# Altium footprint library aiskylab-06IC-03Interface.PcbLib: 31 footprints (part 1 of 2)
Each footprint in its own frame and in the unit in brackets; x right, y up, seen from the top. Pads: shape width x height; smd on the part's side, far side on the other; paste and mask are expansions set on the pad; w line width, h text height; cw(c..) or ccw(c..) is an arc to the next point about the centre after c.
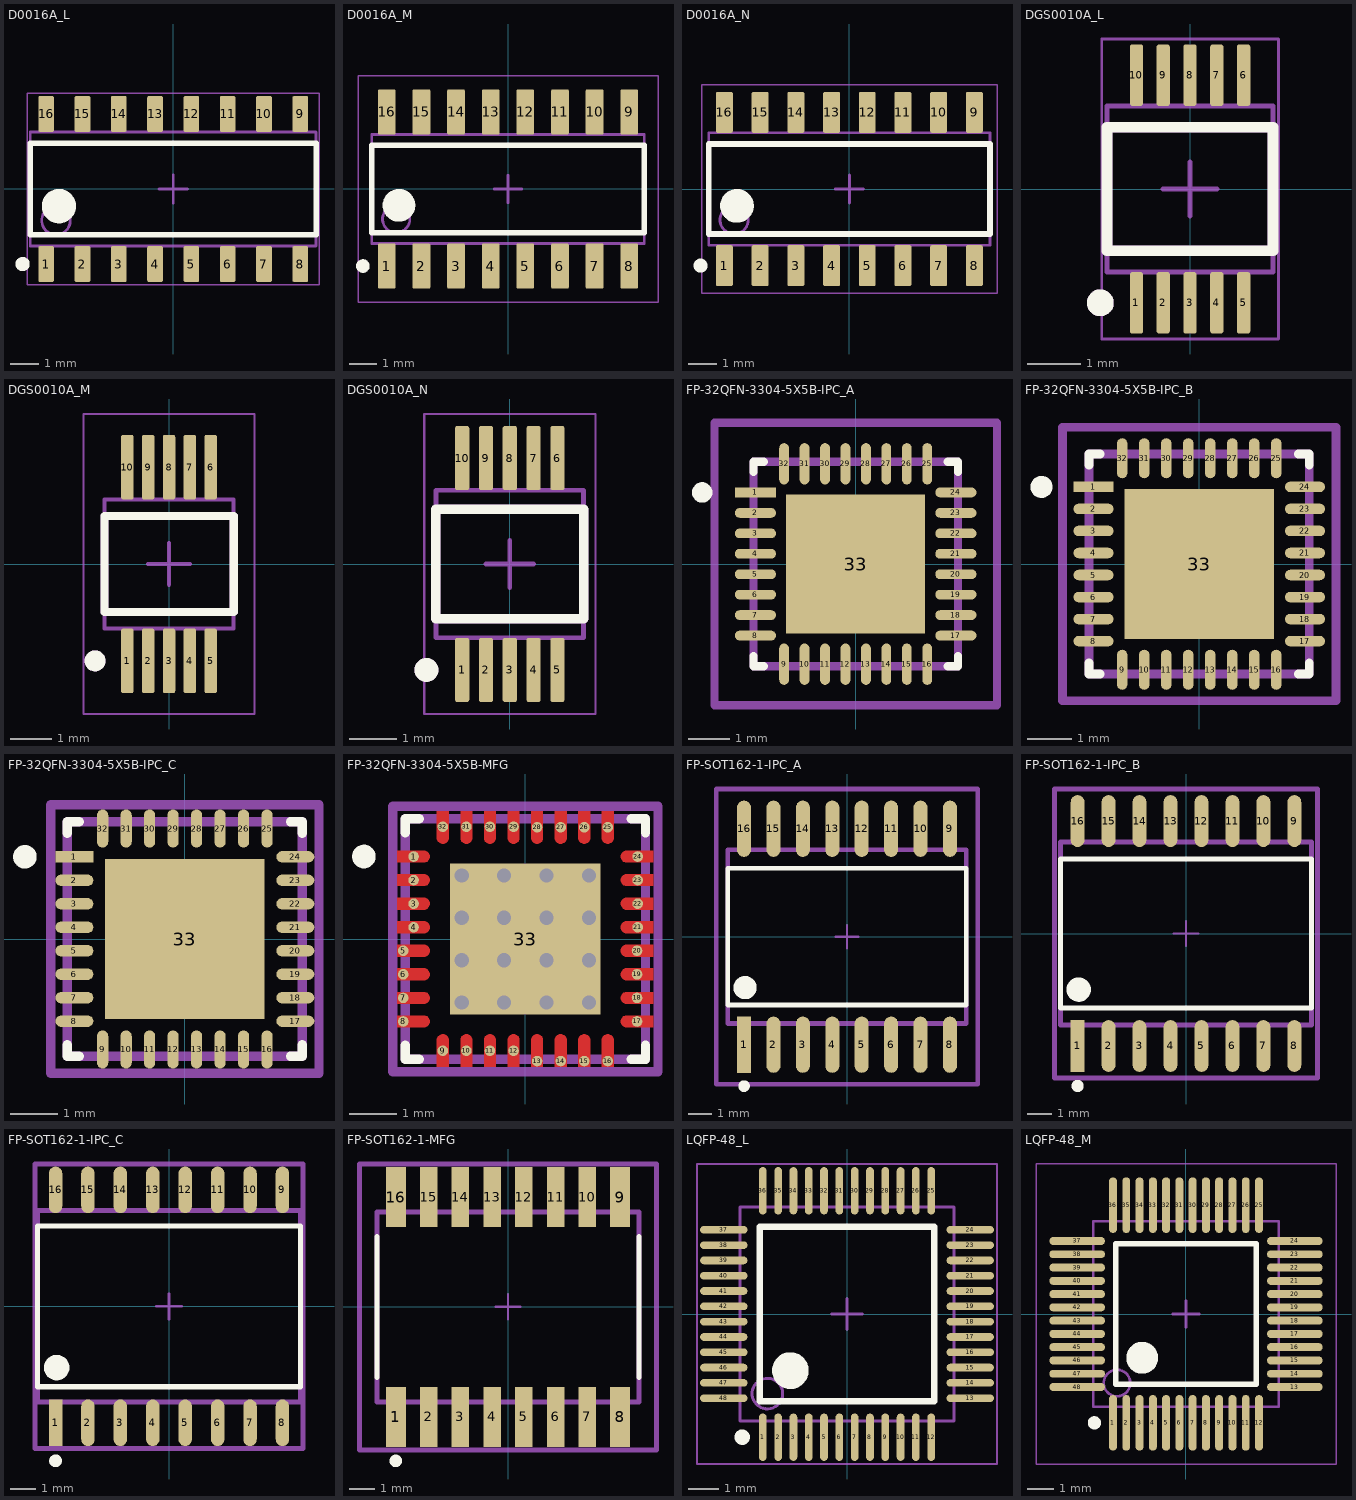
[diagram p0: the footprints below, top view; thin cyan lines are the x and y axes]

## D0016A_L [mm] "SOIC, 16-Leads, Body 10x4mm, Pitch 1.27mm, IPC High Density"
height 1.75
pads (16):
  rrect18% 0.55x1.25 smd: 1(-4.445,-2.625) 2(-3.175,-2.625) 3(-1.905,-2.625) 4(-0.635,-2.625) 5(0.635,-2.625) 6(1.905,-2.625) 7(3.175,-2.625) 8(4.445,-2.625) 9(4.445,2.625) 10(3.175,2.625) 11(1.905,2.625) 12(0.635,2.625) 13(-0.635,2.625) 14(-1.905,2.625) 15(-3.175,2.625) 16(-4.445,2.625)
Top Overlay:
  circle w0.6: c-4,-0.6 r0.3
  circle w0.25: c-5.27,-2.625 r0.125
  lines w0.2: -5,-1.6 -5,1.6 5,1.6 5,-1.6 -5,-1.6
Top Designator:
  text ".Designator" at -7.815,-0.508 h1.52
Top Assembly:
  circle w0.1: c-4.1,-1.1 r0.5
  lines w0.1: -5,-2 5,-2 5,2 -5,2 -5,-2
Top Component Center:
  lines w0.1: -0.5,0 0.5,0 ; 0,-0.5 0,0.5
Top Component Outline:
  lines w0.05: -5.1,-3.35 5.1,-3.35 5.1,3.35 -5.1,3.35 -5.1,-3.35
3D body "SOIC-16akaD0016AakaM16A.stp": height 1.59, standoff -0.01, extent -4.953,-2.997 4.953,2.997

## D0016A_M [mm] "SOIC, 16-Leads, Body 10x4mm, Pitch 1.27mm, IPC Low Density"
height 1.75
pads (16):
  rrect15% 0.65x1.65 smd: 1(-4.445,-2.825) 2(-3.175,-2.825) 3(-1.905,-2.825) 4(-0.635,-2.825) 5(0.635,-2.825) 6(1.905,-2.825) 7(3.175,-2.825) 8(4.445,-2.825) 9(4.445,2.825) 10(3.175,2.825) 11(1.905,2.825) 12(0.635,2.825) 13(-0.635,2.825) 14(-1.905,2.825) 15(-3.175,2.825) 16(-4.445,2.825)
Top Overlay:
  circle w0.25: c-5.32,-2.825 r0.125
  circle w0.6: c-4,-0.6 r0.3
  lines w0.2: -5,-1.6 5,-1.6 5,1.6 -5,1.6 -5,-1.6
Top Designator:
  text ".Designator" at -7.64,-0.508 h1.52
Top Assembly:
  circle w0.1: c-4.1,-1.1 r0.5
  lines w0.1: -5,-2 5,-2 5,2 -5,2 -5,-2
Top Component Center:
  lines w0.1: -0.5,0 0.5,0 ; 0,-0.5 0,0.5
Top Component Outline:
  lines w0.05: -5.5,-4.15 5.5,-4.15 5.5,4.15 -5.5,4.15 -5.5,-4.15
3D body "SOIC-16akaD0016AakaM16A.stp": height 1.59, standoff -0.01, extent -4.953,-2.997 4.953,2.997

## D0016A_N [mm] "SOIC, 16-Leads, Body 10x4mm, Pitch 1.27mm, IPC Medium Density"
height 1.75
pads (16):
  rrect17% 0.6x1.45 smd: 1(-4.445,-2.725) 2(-3.175,-2.725) 3(-1.905,-2.725) 4(-0.635,-2.725) 5(0.635,-2.725) 6(1.905,-2.725) 7(3.175,-2.725) 8(4.445,-2.725) 9(4.445,2.725) 10(3.175,2.725) 11(1.905,2.725) 12(0.635,2.725) 13(-0.635,2.725) 14(-1.905,2.725) 15(-3.175,2.725) 16(-4.445,2.725)
Top Overlay:
  circle w0.25: c-5.295,-2.725 r0.125
  circle w0.6: c-4,-0.6 r0.3
  lines w0.2: -5,-1.6 5,-1.6 5,1.6 -5,1.6 -5,-1.6
Top Designator:
  text ".Designator" at -7.753,-0.508 h1.52
Top Assembly:
  circle w0.1: c-4.1,-1.1 r0.5
  lines w0.1: -5,-2 -5,2 5,2 5,-2 -5,-2
Top Component Center:
  lines w0.1: -0.5,0 0.5,0 ; 0,-0.5 0,0.5
Top Component Outline:
  lines w0.05: -5.25,-3.7 -5.25,3.7 5.25,3.7 5.25,-3.7 -5.25,-3.7
3D body "SOIC-16akaD0016AakaM16A.stp": height 1.59, standoff -0.01, extent -4.953,-2.997 4.953,2.997

## DGS0010A_L [mm] "SOP, 10-Leads, Body 3.1x3.1mm, Pitch 0.5mm, IPC High Density"
height 1.1
pads (10):
  rrect40% 0.25x1.15 smd: 1(-1,-2.125) 2(-0.5,-2.125) 3(0,-2.125) 4(0.5,-2.125) 5(1,-2.125) 6(1,2.125) 7(0.5,2.125) 8(0,2.125) 9(-0.5,2.125) 10(-1,2.125)
Top Overlay:
  circle w0.25: c-1.675,-2.125 r0.125
  lines w0.2: -1.55,-1.15 1.55,-1.15 1.55,1.15 -1.55,1.15 -1.55,-1.15
Top Designator:
  text ".Designator" at -7.743,-0.508 h1.52
Top Assembly:
  circle w0.25: c-1.675,-2.125 r0.125
  lines w0.2: -1.55,-1.15 1.55,-1.15 1.55,1.15 -1.55,1.15 -1.55,-1.15
Top Component Center:
  lines w0.1: -0.5,0 0.5,0 ; 0,-0.5 0,0.5
Top Component Outline:
  lines w0.05: -1.65,-2.8 -1.65,2.8 1.65,2.8 1.65,-2.8 -1.65,-2.8
Top 3D Body:
  lines w0.1: -1.55,-1.55 -1.55,1.55 1.55,1.55 1.55,-1.55 -1.55,-1.55
3D body "DGS0010AakaMUB10A.stp": height 0.94, standoff -0.02, extent -1.499,-2.451 1.499,2.451

## DGS0010A_M [mm] "SOP, 10-Leads, Body 3.1x3.1mm, Pitch 0.5mm, IPC Low Density"
height 1.1
pads (10):
  rrect33% 0.3x1.55 smd: 1(-1,-2.325) 2(-0.5,-2.325) 3(0,-2.325) 4(0.5,-2.325) 5(1,-2.325) 6(1,2.325) 7(0.5,2.325) 8(0,2.325) 9(-0.5,2.325) 10(-1,2.325)
Top Overlay:
  circle w0.25: c-1.775,-2.325 r0.125
  lines w0.2: -1.55,-1.15 1.55,-1.15 1.55,1.15 -1.55,1.15 -1.55,-1.15
Top Designator:
  text ".Designator" at -7.618,-0.508 h1.52
Top Assembly:
  circle w0.25: c-1.775,-2.325 r0.125
  lines w0.2: -1.55,-1.15 1.55,-1.15 1.55,1.15 -1.55,1.15 -1.55,-1.15
Top Component Center:
  lines w0.1: -0.5,0 0.5,0 ; 0,-0.5 0,0.5
Top Component Outline:
  lines w0.05: -2.05,-3.6 -2.05,3.6 2.05,3.6 2.05,-3.6 -2.05,-3.6
Top 3D Body:
  lines w0.1: -1.55,-1.55 -1.55,1.55 1.55,1.55 1.55,-1.55 -1.55,-1.55
3D body "DGS0010AakaMUB10A.stp": height 0.94, standoff -0.02, extent -1.499,-2.451 1.499,2.451

## DGS0010A_N [mm] "SOP, 10-Leads, Body 3.1x3.1mm, Pitch 0.5mm, IPC Medium Density"
height 1.1
pads (10):
  rrect33% 0.3x1.35 smd: 1(-1,-2.225) 2(-0.5,-2.225) 3(0,-2.225) 4(0.5,-2.225) 5(1,-2.225) 6(1,2.225) 7(0.5,2.225) 8(0,2.225) 9(-0.5,2.225) 10(-1,2.225)
Top Overlay:
  circle w0.25: c-1.75,-2.225 r0.125
  lines w0.2: -1.55,-1.15 1.55,-1.15 1.55,1.15 -1.55,1.15 -1.55,-1.15
Top Designator:
  text ".Designator" at -7.705,-0.508 h1.52
Top Assembly:
  circle w0.25: c-1.75,-2.225 r0.125
  lines w0.2: -1.55,-1.15 -1.55,1.15 1.55,1.15 1.55,-1.15 -1.55,-1.15
Top Component Center:
  lines w0.1: -0.5,0 0.5,0 ; 0,-0.5 0,0.5
Top Component Outline:
  lines w0.05: -1.8,-3.15 1.8,-3.15 1.8,3.15 -1.8,3.15 -1.8,-3.15
Top 3D Body:
  lines w0.1: -1.55,-1.55 1.55,-1.55 1.55,1.55 -1.55,1.55 -1.55,-1.55
3D body "DGS0010AakaMUB10A.stp": height 0.94, standoff -0.02, extent -1.499,-2.451 1.499,2.451

## FP-32QFN-3304-5X5B-IPC_A [mm]
pads (33):
  rect 1.01x0.239 smd paste+0 mask+0: 1(-2.451,1.75)
  rrect100% 1.01x0.239 smd paste+0 mask+0: 2(-2.451,1.25) 3(-2.451,0.75) 4(-2.451,0.25) 5(-2.451,-0.25) 6(-2.451,-0.75) 7(-2.451,-1.25) 8(-2.451,-1.75) 17(2.451,-1.75) 18(2.451,-1.25) 19(2.451,-0.75) 20(2.451,-0.25) 21(2.451,0.25) 22(2.451,0.75) 23(2.451,1.25) 24(2.451,1.75)
  rrect100% 0.239x1.01 smd paste+0 mask+0: 9(-1.75,-2.451) 10(-1.25,-2.451) 11(-0.75,-2.451) 12(-0.25,-2.451) 13(0.25,-2.451) 14(0.75,-2.451) 15(1.25,-2.451) 16(1.75,-2.451) 25(1.75,2.451) 26(1.25,2.451) 27(0.75,2.451) 28(0.25,2.451) 29(-0.25,2.451) 30(-0.75,2.451) 31(-1.25,2.451) 32(-1.75,2.451)
  rect 3.4x3.4 smd paste-1000 mask+0: 33(0,0)
Top Overlay:
  circle w0.25: c-3.756,1.75 r0.125
  lines w0.2: -2.5,-2.25 -2.5,-2.5 -2.25,-2.5 ; -2.5,2.25 -2.5,2.5 -2.25,2.5 ; 2.25,-2.5 2.5,-2.5 2.5,-2.25 ; 2.25,2.5 2.5,2.5 2.5,2.25
Top Paste:
  rectangle: -1.075,-1.075 1.075,1.075
Top Designator:
  text ".Designator" at -7.843,-0.508 h1.52
Top Assembly:
  lines w0.2: -2.5,-2.5 -2.5,2.5 2.5,2.5 2.5,-2.5 -2.5,-2.5
Top Component Center:
  lines w0.1: -0.5,0 0.5,0 ; 0,-0.5 0,0.5
Top Component Outline:
  lines w0.2: -3.456,-3.456 3.456,-3.456 3.456,3.456 -3.456,3.456 -3.456,-3.456
Bottom 3D Body:
  lines w0.2: -3.456,-3.456 3.456,-3.456 3.456,3.456 -3.456,3.456 -3.456,-3.456
3D body "IC_Microchip_USB3320C-EZK-TR_eec.STEP": height 1, standoff 0, extent -2.5,-2.5 2.5,2.5

## FP-32QFN-3304-5X5B-IPC_B [mm]
pads (33):
  rect 0.91x0.239 smd paste+0 mask+0: 1(-2.401,1.75)
  rrect100% 0.91x0.239 smd paste+0 mask+0: 2(-2.401,1.25) 3(-2.401,0.75) 4(-2.401,0.25) 5(-2.401,-0.25) 6(-2.401,-0.75) 7(-2.401,-1.25) 8(-2.401,-1.75) 17(2.401,-1.75) 18(2.401,-1.25) 19(2.401,-0.75) 20(2.401,-0.25) 21(2.401,0.25) 22(2.401,0.75) 23(2.401,1.25) 24(2.401,1.75)
  rrect100% 0.239x0.91 smd paste+0 mask+0: 9(-1.75,-2.401) 10(-1.25,-2.401) 11(-0.75,-2.401) 12(-0.25,-2.401) 13(0.25,-2.401) 14(0.75,-2.401) 15(1.25,-2.401) 16(1.75,-2.401) 25(1.75,2.401) 26(1.25,2.401) 27(0.75,2.401) 28(0.25,2.401) 29(-0.25,2.401) 30(-0.75,2.401) 31(-1.25,2.401) 32(-1.75,2.401)
  rect 3.4x3.4 smd paste-1000 mask+0: 33(0,0)
Top Overlay:
  circle w0.25: c-3.581,1.75 r0.125
  lines w0.2: -2.5,-2.25 -2.5,-2.5 -2.25,-2.5 ; -2.5,2.25 -2.5,2.5 -2.25,2.5 ; 2.25,-2.5 2.5,-2.5 2.5,-2.25 ; 2.25,2.5 2.5,2.5 2.5,2.25
Top Paste:
  rectangle: -1.075,-1.075 1.075,1.075
Top Designator:
  text ".Designator" at -7.93,-0.508 h1.52
Top Assembly:
  lines w0.2: -3.106,-3.106 3.106,-3.106 3.106,3.106 -3.106,3.106 -3.106,-3.106
Top Component Center:
  lines w0.1: -0.5,0 0.5,0 ; 0,-0.5 0,0.5
Top Component Outline:
  lines w0.2: -3.106,-3.106 -3.106,3.106 3.106,3.106 3.106,-3.106 -3.106,-3.106
Top 3D Body:
  lines w0.2: -2.5,-2.5 -2.5,2.5 2.5,2.5 2.5,-2.5 -2.5,-2.5
3D body "IC_Microchip_USB3320C-EZK-TR_eec.STEP": height 1, standoff 0, extent -2.5,-2.5 2.5,2.5

## FP-32QFN-3304-5X5B-IPC_C [mm]
pads (33):
  rect 0.81x0.239 smd paste+0 mask+0: 1(-2.351,1.75)
  rrect100% 0.81x0.239 smd paste+0 mask+0: 2(-2.351,1.25) 3(-2.351,0.75) 4(-2.351,0.25) 5(-2.351,-0.25) 6(-2.351,-0.75) 7(-2.351,-1.25) 8(-2.351,-1.75) 17(2.351,-1.75) 18(2.351,-1.25) 19(2.351,-0.75) 20(2.351,-0.25) 21(2.351,0.25) 22(2.351,0.75) 23(2.351,1.25) 24(2.351,1.75)
  rrect100% 0.239x0.81 smd paste+0 mask+0: 9(-1.75,-2.351) 10(-1.25,-2.351) 11(-0.75,-2.351) 12(-0.25,-2.351) 13(0.25,-2.351) 14(0.75,-2.351) 15(1.25,-2.351) 16(1.75,-2.351) 25(1.75,2.351) 26(1.25,2.351) 27(0.75,2.351) 28(0.25,2.351) 29(-0.25,2.351) 30(-0.75,2.351) 31(-1.25,2.351) 32(-1.75,2.351)
  rect 3.4x3.4 smd paste-1000 mask+0: 33(0,0)
Top Overlay:
  circle w0.25: c-3.406,1.75 r0.125
  lines w0.2: -2.5,-2.25 -2.5,-2.5 -2.25,-2.5 ; -2.5,2.25 -2.5,2.5 -2.25,2.5 ; 2.25,-2.5 2.5,-2.5 2.5,-2.25 ; 2.25,2.5 2.5,2.5 2.5,2.25
Top Paste:
  rectangle: -1.075,-1.075 1.075,1.075
Top Designator:
  text ".Designator" at -7.968,-0.508 h1.52
Top Assembly:
  lines w0.2: -2.856,-2.856 2.856,-2.856 2.856,2.856 -2.856,2.856 -2.856,-2.856
Top Component Center:
  lines w0.1: -0.5,0 0.5,0 ; 0,-0.5 0,0.5
Top Component Outline:
  lines w0.2: -2.856,-2.856 2.856,-2.856 2.856,2.856 -2.856,2.856 -2.856,-2.856
Top 3D Body:
  lines w0.2: -2.5,-2.5 2.5,-2.5 2.5,2.5 -2.5,2.5 -2.5,-2.5
3D body "IC_Microchip_USB3320C-EZK-TR_eec.STEP": height 1, standoff 0, extent -2.5,-2.5 2.5,2.5

## FP-32QFN-3304-5X5B-MFG [mm]
pads (33):
  round 0.225 smd paste-1000 mask+0: 1(-2.37,1.75) 2(-2.37,1.25) 3(-2.37,0.75) 4(-2.37,0.25) 5(-2.59,-0.25) 6(-2.59,-0.75) 7(-2.59,-1.25) 8(-2.59,-1.75) 9(-1.75,-2.37) 10(-1.25,-2.37) 11(-0.75,-2.37) 12(-0.25,-2.37) 13(0.25,-2.59) 14(0.75,-2.59) 15(1.25,-2.59) 16(1.75,-2.59) 17(2.37,-1.75) 18(2.37,-1.25) 19(2.37,-0.75) 20(2.37,-0.25) 21(2.383,0.25) 22(2.383,0.75) 23(2.383,1.25) 24(2.383,1.75) 25(1.75,2.37) 26(1.25,2.37) 27(0.75,2.37) 28(0.25,2.37) 29(-0.25,2.383) 30(-0.75,2.383) 31(-1.25,2.383) 32(-1.75,2.383)
  rect 3.2x3.2 smd paste-1000 mask+0: 33(0,0)
via 1.35,-1.35 diameter 0.5 hole 0.3
via 0.45,-1.35 diameter 0.5 hole 0.3
via -0.45,-1.35 diameter 0.5 hole 0.3
via -1.35,-1.35 diameter 0.5 hole 0.3
via 1.35,-0.45 diameter 0.5 hole 0.3
via 0.45,-0.45 diameter 0.5 hole 0.3
via -0.45,-0.45 diameter 0.5 hole 0.3
via -1.35,-0.45 diameter 0.5 hole 0.3
via 1.35,0.45 diameter 0.5 hole 0.3
via 0.45,0.45 diameter 0.5 hole 0.3
via -0.45,0.45 diameter 0.5 hole 0.3
via -1.35,0.45 diameter 0.5 hole 0.3
via 1.35,1.35 diameter 0.5 hole 0.3
via 0.45,1.35 diameter 0.5 hole 0.3
via -0.45,1.35 diameter 0.5 hole 0.3
via -1.35,1.35 diameter 0.5 hole 0.3
Top Layer:
  region: -1.625,2.715 -1.625,2.15 -1.625,2.125 -1.644,2.079 -1.679,2.044 -1.725,2.025 -1.75,2.025 -1.775,2.025 -1.821,2.044 -1.856,2.079 -1.875,2.125 -1.875,2.15 -1.875,2.715
  region: -1.125,2.715 -1.125,2.15 -1.125,2.125 -1.144,2.079 -1.179,2.044 -1.225,2.025 -1.25,2.025 -1.275,2.025 -1.321,2.044 -1.356,2.079 -1.375,2.125 -1.375,2.15 -1.375,2.715
  region: -0.625,2.715 -0.625,2.15 -0.625,2.125 -0.644,2.079 -0.679,2.044 -0.725,2.025 -0.75,2.025 -0.775,2.025 -0.821,2.044 -0.856,2.079 -0.875,2.125 -0.875,2.15 -0.875,2.715
  region: -0.125,2.715 -0.125,2.15 -0.125,2.125 -0.144,2.079 -0.179,2.044 -0.225,2.025 -0.25,2.025 -0.275,2.025 -0.321,2.044 -0.356,2.079 -0.375,2.125 -0.375,2.15 -0.375,2.715
  region: 0.375,2.715 0.375,2.15 0.375,2.125 0.356,2.079 0.321,2.044 0.275,2.025 0.25,2.025 0.225,2.025 0.179,2.044 0.144,2.079 0.125,2.125 0.125,2.15 0.125,2.715
  region: 0.875,2.715 0.875,2.15 0.875,2.125 0.856,2.079 0.821,2.044 0.775,2.025 0.75,2.025 0.725,2.025 0.679,2.044 0.644,2.079 0.625,2.125 0.625,2.15 0.625,2.715
  region: 1.375,2.715 1.375,2.15 1.375,2.125 1.356,2.079 1.321,2.044 1.275,2.025 1.25,2.025 1.225,2.025 1.179,2.044 1.144,2.079 1.125,2.125 1.125,2.15 1.125,2.715
  region: 1.875,2.715 1.875,2.15 1.875,2.125 1.856,2.079 1.821,2.044 1.775,2.025 1.75,2.025 1.725,2.025 1.679,2.044 1.644,2.079 1.625,2.125 1.625,2.15 1.625,2.715
  region: 1.625,-2.715 1.625,-2.15 1.625,-2.125 1.644,-2.079 1.679,-2.044 1.725,-2.025 1.75,-2.025 1.775,-2.025 1.821,-2.044 1.856,-2.079 1.875,-2.125 1.875,-2.15 1.875,-2.715
  region: 1.125,-2.715 1.125,-2.15 1.125,-2.125 1.144,-2.079 1.179,-2.044 1.225,-2.025 1.25,-2.025 1.275,-2.025 1.321,-2.044 1.356,-2.079 1.375,-2.125 1.375,-2.15 1.375,-2.715
  region: 0.625,-2.715 0.625,-2.15 0.625,-2.125 0.644,-2.079 0.679,-2.044 0.725,-2.025 0.75,-2.025 0.775,-2.025 0.821,-2.044 0.856,-2.079 0.875,-2.125 0.875,-2.15 0.875,-2.715
  region: 0.125,-2.715 0.125,-2.15 0.125,-2.125 0.144,-2.079 0.179,-2.044 0.225,-2.025 0.25,-2.025 0.275,-2.025 0.321,-2.044 0.356,-2.079 0.375,-2.125 0.375,-2.15 0.375,-2.715
  region: -0.375,-2.715 -0.375,-2.15 -0.375,-2.125 -0.356,-2.079 -0.321,-2.044 -0.275,-2.025 -0.25,-2.025 -0.225,-2.025 -0.179,-2.044 -0.144,-2.079 -0.125,-2.125 -0.125,-2.15 -0.125,-2.715
  region: -0.875,-2.715 -0.875,-2.15 -0.875,-2.125 -0.856,-2.079 -0.821,-2.044 -0.775,-2.025 -0.75,-2.025 -0.725,-2.025 -0.679,-2.044 -0.644,-2.079 -0.625,-2.125 -0.625,-2.15 -0.625,-2.715
  region: -1.375,-2.715 -1.375,-2.15 -1.375,-2.125 -1.356,-2.079 -1.321,-2.044 -1.275,-2.025 -1.25,-2.025 -1.225,-2.025 -1.179,-2.044 -1.144,-2.079 -1.125,-2.125 -1.125,-2.15 -1.125,-2.715
  region: -1.875,-2.715 -1.875,-2.15 -1.875,-2.125 -1.856,-2.079 -1.821,-2.044 -1.775,-2.025 -1.75,-2.025 -1.725,-2.025 -1.679,-2.044 -1.644,-2.079 -1.625,-2.125 -1.625,-2.15 -1.625,-2.715
  region: 2.715,1.625 2.15,1.625 2.125,1.625 2.079,1.644 2.044,1.679 2.025,1.725 2.025,1.75 2.025,1.775 2.044,1.821 2.079,1.856 2.125,1.875 2.15,1.875 2.715,1.875
  region: 2.715,1.125 2.15,1.125 2.125,1.125 2.079,1.144 2.044,1.179 2.025,1.225 2.025,1.25 2.025,1.275 2.044,1.321 2.079,1.356 2.125,1.375 2.15,1.375 2.715,1.375
  region: 2.715,0.625 2.15,0.625 2.125,0.625 2.079,0.644 2.044,0.679 2.025,0.725 2.025,0.75 2.025,0.775 2.044,0.821 2.079,0.856 2.125,0.875 2.15,0.875 2.715,0.875
  region: 2.715,0.125 2.15,0.125 2.125,0.125 2.079,0.144 2.044,0.179 2.025,0.225 2.025,0.25 2.025,0.275 2.044,0.321 2.079,0.356 2.125,0.375 2.15,0.375 2.715,0.375
  region: 2.715,-0.375 2.15,-0.375 2.125,-0.375 2.079,-0.356 2.044,-0.321 2.025,-0.275 2.025,-0.25 2.025,-0.225 2.044,-0.179 2.079,-0.144 2.125,-0.125 2.15,-0.125 2.715,-0.125
  region: 2.715,-0.875 2.15,-0.875 2.125,-0.875 2.079,-0.856 2.044,-0.821 2.025,-0.775 2.025,-0.75 2.025,-0.725 2.044,-0.679 2.079,-0.644 2.125,-0.625 2.15,-0.625 2.715,-0.625
  region: 2.715,-1.375 2.15,-1.375 2.125,-1.375 2.079,-1.356 2.044,-1.321 2.025,-1.275 2.025,-1.25 2.025,-1.225 2.044,-1.179 2.079,-1.144 2.125,-1.125 2.15,-1.125 2.715,-1.125
  region: 2.715,-1.875 2.15,-1.875 2.125,-1.875 2.079,-1.856 2.044,-1.821 2.025,-1.775 2.025,-1.75 2.025,-1.725 2.044,-1.679 2.079,-1.644 2.125,-1.625 2.15,-1.625 2.715,-1.625
  region: -2.715,-1.625 -2.15,-1.625 -2.125,-1.625 -2.079,-1.644 -2.044,-1.679 -2.025,-1.725 -2.025,-1.75 -2.025,-1.775 -2.044,-1.821 -2.079,-1.856 -2.125,-1.875 -2.15,-1.875 -2.715,-1.875
  region: -2.715,-1.125 -2.15,-1.125 -2.125,-1.125 -2.079,-1.144 -2.044,-1.179 -2.025,-1.225 -2.025,-1.25 -2.025,-1.275 -2.044,-1.321 -2.079,-1.356 -2.125,-1.375 -2.15,-1.375 -2.715,-1.375
  region: -2.715,-0.625 -2.15,-0.625 -2.125,-0.625 -2.079,-0.644 -2.044,-0.679 -2.025,-0.725 -2.025,-0.75 -2.025,-0.775 -2.044,-0.821 -2.079,-0.856 -2.125,-0.875 -2.15,-0.875 -2.715,-0.875
  region: -2.715,-0.125 -2.15,-0.125 -2.125,-0.125 -2.079,-0.144 -2.044,-0.179 -2.025,-0.225 -2.025,-0.25 -2.025,-0.275 -2.044,-0.321 -2.079,-0.356 -2.125,-0.375 -2.15,-0.375 -2.715,-0.375
  region: -2.715,0.375 -2.15,0.375 -2.125,0.375 -2.079,0.356 -2.044,0.321 -2.025,0.275 -2.025,0.25 -2.025,0.225 -2.044,0.179 -2.079,0.144 -2.125,0.125 -2.15,0.125 -2.715,0.125
  region: -2.715,0.875 -2.15,0.875 -2.125,0.875 -2.079,0.856 -2.044,0.821 -2.025,0.775 -2.025,0.75 -2.025,0.725 -2.044,0.679 -2.079,0.644 -2.125,0.625 -2.15,0.625 -2.715,0.625
  region: -2.715,1.375 -2.15,1.375 -2.125,1.375 -2.079,1.356 -2.044,1.321 -2.025,1.275 -2.025,1.25 -2.025,1.225 -2.044,1.179 -2.079,1.144 -2.125,1.125 -2.15,1.125 -2.715,1.125
  region: -2.715,1.875 -2.15,1.875 -2.125,1.875 -2.079,1.856 -2.044,1.821 -2.025,1.775 -2.025,1.75 -2.025,1.725 -2.044,1.679 -2.079,1.644 -2.125,1.625 -2.15,1.625 -2.715,1.625
Top Overlay:
  circle w0.25: c-3.425,1.75 r0.125
  lines w0.2: -2.55,-2.25 -2.55,-2.55 -2.25,-2.55 ; -2.55,2.25 -2.55,2.55 -2.25,2.55 ; 2.25,-2.55 2.55,-2.55 2.55,-2.25 ; 2.25,2.55 2.55,2.55 2.55,2.25
Top Paste:
  drawing of 41 lines, arcs and shapes, not listed
Top Designator:
  text ".Designator" at -7.203,-0.508 h1.52
Top Assembly:
  lines w0.2: -2.55,-2.55 -2.55,2.55 2.55,2.55 2.55,-2.55 -2.55,-2.55
Bottom Assembly:
  lines w0.2: -2.815,-2.815 -2.815,2.815 2.815,2.815 2.815,-2.815 -2.815,-2.815
  text ".Designator" at 0,-0.001 h1
Top Component Center:
  lines w0.1: -0.5,0 0.5,0 ; 0,-0.5 0,0.5
Top Component Outline:
  lines w0.2: -2.815,-2.815 -2.815,2.815 2.815,2.815 2.815,-2.815 -2.815,-2.815
3D body "IC_Microchip_USB3320C-EZK-TR_eec.STEP": height 1, standoff 0, extent -2.5,-2.5 2.5,2.5

## FP-SOT162-1-IPC_A [mm]
pads (16):
  rect 0.608x2.428 smd paste+0 mask+0: 1(-4.445,-4.663)
  rrect100% 0.608x2.428 smd paste+0 mask+0: 2(-3.175,-4.663) 3(-1.905,-4.663) 4(-0.635,-4.663) 5(0.635,-4.663) 6(1.905,-4.663) 7(3.175,-4.663) 8(4.445,-4.663) 9(4.445,4.663) 10(3.175,4.663) 11(1.905,4.663) 12(0.635,4.663) 13(-0.635,4.663) 14(-1.905,4.663) 15(-3.175,4.663) 16(-4.445,4.663)
Top Overlay:
  circle w0.5: c-4.4,-2.199 r0.25
  circle w0.25: c-4.445,-6.452 r0.125
  lines w0.2: -5.15,-2.949 -5.15,2.949 5.15,2.949 5.15,-2.949 -5.15,-2.949
Top Designator:
  text ".Designator" at -7.618,-0.62 h1.52
Top Assembly:
  lines w0.2: -5.65,-6.377 5.65,-6.377 5.65,6.377 -5.65,6.377 -5.65,-6.377
Top Component Center:
  lines w0.1: -0.5,0 0.5,0 ; 0,-0.5 0,0.5
Top Component Outline:
  lines w0.2: -5.65,-6.377 5.65,-6.377 5.65,6.377 -5.65,6.377 -5.65,-6.377
Top 3D Body:
  lines w0.2: -5.15,-3.75 5.15,-3.75 5.15,3.75 -5.15,3.75 -5.15,-3.75
3D body "IC_NXP_Semiconductors_PCF8574T-3_518_eec.STEP": height 2.65, standoff 0, extent -5.15,-5.15 5.15,5.15

## FP-SOT162-1-IPC_B [mm]
pads (16):
  rect 0.568x2.128 smd paste+0 mask+0: 1(-4.445,-4.613)
  rrect100% 0.568x2.128 smd paste+0 mask+0: 2(-3.175,-4.613) 3(-1.905,-4.613) 4(-0.635,-4.613) 5(0.635,-4.613) 6(1.905,-4.613) 7(3.175,-4.613) 8(4.445,-4.613) 9(4.445,4.613) 10(3.175,4.613) 11(1.905,4.613) 12(0.635,4.613) 13(-0.635,4.613) 14(-1.905,4.613) 15(-3.175,4.613) 16(-4.445,4.613)
Top Overlay:
  circle w0.25: c-4.445,-6.252 r0.125
  circle w0.5: c-4.4,-2.299 r0.25
  lines w0.2: -5.15,-3.049 5.15,-3.049 5.15,3.049 -5.15,3.049 -5.15,-3.049
Top Designator:
  text ".Designator" at -7.618,-0.745 h1.52
Top Assembly:
  lines w0.2: -5.4,-5.927 5.4,-5.927 5.4,5.927 -5.4,5.927 -5.4,-5.927
Top Component Center:
  lines w0.1: -0.5,0 0.5,0 ; 0,-0.5 0,0.5
Top Component Outline:
  lines w0.2: -5.4,-5.927 5.4,-5.927 5.4,5.927 -5.4,5.927 -5.4,-5.927
Top 3D Body:
  lines w0.2: -5.15,-3.75 5.15,-3.75 5.15,3.75 -5.15,3.75 -5.15,-3.75
3D body "IC_NXP_Semiconductors_PCF8574T-3_518_eec.STEP": height 2.65, standoff 0, extent -5.15,-5.15 5.15,5.15

## FP-SOT162-1-IPC_C [mm]
pads (16):
  rect 0.528x1.828 smd paste+0 mask+0: 1(-4.445,-4.563)
  rrect100% 0.528x1.828 smd paste+0 mask+0: 2(-3.175,-4.563) 3(-1.905,-4.563) 4(-0.635,-4.563) 5(0.635,-4.563) 6(1.905,-4.563) 7(3.175,-4.563) 8(4.445,-4.563) 9(4.445,4.563) 10(3.175,4.563) 11(1.905,4.563) 12(0.635,4.563) 13(-0.635,4.563) 14(-1.905,4.563) 15(-3.175,4.563) 16(-4.445,4.563)
Top Overlay:
  circle w0.25: c-4.445,-6.052 r0.125
  circle w0.5: c-4.4,-2.399 r0.25
  lines w0.2: -5.15,-3.149 5.15,-3.149 5.15,3.149 -5.15,3.149 -5.15,-3.149
Top Designator:
  text ".Designator" at -7.618,-0.82 h1.52
Top Assembly:
  lines w0.2: -5.25,-5.577 5.25,-5.577 5.25,5.577 -5.25,5.577 -5.25,-5.577
Top Component Center:
  lines w0.1: -0.5,0 0.5,0 ; 0,-0.5 0,0.5
Top Component Outline:
  lines w0.2: -5.25,-5.577 -5.25,5.577 5.25,5.577 5.25,-5.577 -5.25,-5.577
Top 3D Body:
  lines w0.2: -5.15,-3.75 5.15,-3.75 5.15,3.75 -5.15,3.75 -5.15,-3.75
3D body "IC_NXP_Semiconductors_PCF8574T-3_518_eec.STEP": height 2.65, standoff 0, extent -5.15,-5.15 5.15,5.15

## FP-SOT162-1-MFG [mm]
pads (16):
  rect 0.8x2.4 smd paste+0 mask+0: 1(-4.495,-4.4) 8(4.495,-4.4) 9(4.495,4.4) 16(-4.495,4.4)
  rect 0.7x2.4 smd paste+0 mask+0: 2(-3.175,-4.4) 3(-1.905,-4.4) 4(-0.635,-4.4) 5(0.635,-4.4) 6(1.905,-4.4) 7(3.175,-4.4) 10(3.175,4.4) 11(1.905,4.4) 12(0.635,4.4) 13(-0.635,4.4) 14(-1.905,4.4) 15(-3.175,4.4)
Top Overlay:
  circle w0.25: c-4.495,-6.165 r0.125
  lines w0.2: -5.25,-2.825 -5.25,2.825 ; 5.25,-2.825 5.25,2.825
Top Designator:
  text ".Designator" at -7.618,-0.803 h1.52
Top Assembly:
  lines w0.2: -5.95,-5.725 5.95,-5.725 5.95,5.725 -5.95,5.725 -5.95,-5.725
Top Component Center:
  lines w0.1: -0.5,0 0.5,0 ; 0,-0.5 0,0.5
Top Component Outline:
  lines w0.2: -5.95,-5.725 5.95,-5.725 5.95,5.725 -5.95,5.725 -5.95,-5.725
Top 3D Body:
  lines w0.2: -5.25,-3.8 5.25,-3.8 5.25,3.8 -5.25,3.8 -5.25,-3.8
3D body "IC_NXP_Semiconductors_PCF8574T-3_518_eec.STEP": height 2.65, standoff 0, extent -5.15,-5.15 5.15,5.15

## LQFP-48_L [mm] "Thin QFP, 48-Leads, Body 7x7mm, Pitch 0.5mm, IPC High Density"
height 1.6
pads (48):
  oval 0.25x1.55 smd: 1(-2.75,-4.025) 2(-2.25,-4.025) 3(-1.75,-4.025) 4(-1.25,-4.025) 5(-0.75,-4.025) 6(-0.25,-4.025) 7(0.25,-4.025) 8(0.75,-4.025) 9(1.25,-4.025) 10(1.75,-4.025) 11(2.25,-4.025) 12(2.75,-4.025) 25(2.75,4.025) 26(2.25,4.025) 27(1.75,4.025) 28(1.25,4.025) 29(0.75,4.025) 30(0.25,4.025) 31(-0.25,4.025) 32(-0.75,4.025) 33(-1.25,4.025) 34(-1.75,4.025) 35(-2.25,4.025) 36(-2.75,4.025)
  oval 1.55x0.25 smd: 13(4.025,-2.75) 14(4.025,-2.25) 15(4.025,-1.75) 16(4.025,-1.25) 17(4.025,-0.75) 18(4.025,-0.25) 19(4.025,0.25) 20(4.025,0.75) 21(4.025,1.25) 22(4.025,1.75) 23(4.025,2.25) 24(4.025,2.75) 37(-4.025,2.75) 38(-4.025,2.25) 39(-4.025,1.75) 40(-4.025,1.25) 41(-4.025,0.75) 42(-4.025,0.25) 43(-4.025,-0.25) 44(-4.025,-0.75) 45(-4.025,-1.25) 46(-4.025,-1.75) 47(-4.025,-2.25) 48(-4.025,-2.75)
Top Overlay:
  circle w0.25: c-3.425,-4.025 r0.125
  circle w0.6: c-1.85,-1.85 r0.3
  lines w0.2: -2.85,-2.85 2.85,-2.85 2.85,2.85 -2.85,2.85 -2.85,-2.85
Top Designator:
  text ".Designator" at -7.618,-0.508 h1.52
Top Assembly:
  circle w0.1: c-2.6,-2.6 r0.5
  lines w0.1: -3.5,-3.5 3.5,-3.5 3.5,3.5 -3.5,3.5 -3.5,-3.5
Top Component Center:
  lines w0.1: -0.5,0 0.5,0 ; 0,-0.5 0,0.5
Top Component Outline:
  lines w0.05: -4.9,-4.9 4.9,-4.9 4.9,4.9 -4.9,4.9 -4.9,-4.9
3D body "LQFP-48-7x7mm.STEP": height 1.55, standoff 0, extent -4.511,-4.51 4.51,4.511

## LQFP-48_M [mm] "Thin QFP, 48-Leads, Body 7x7mm, Pitch 0.5mm, IPC Low Density"
height 1.6
pads (48):
  oval 0.3x2.1 smd: 1(-2.75,-4.1) 2(-2.25,-4.1) 3(-1.75,-4.1) 4(-1.25,-4.1) 5(-0.75,-4.1) 6(-0.25,-4.1) 7(0.25,-4.1) 8(0.75,-4.1) 9(1.25,-4.1) 10(1.75,-4.1) 11(2.25,-4.1) 12(2.75,-4.1) 25(2.75,4.1) 26(2.25,4.1) 27(1.75,4.1) 28(1.25,4.1) 29(0.75,4.1) 30(0.25,4.1) 31(-0.25,4.1) 32(-0.75,4.1) 33(-1.25,4.1) 34(-1.75,4.1) 35(-2.25,4.1) 36(-2.75,4.1)
  oval 2.1x0.3 smd: 13(4.1,-2.75) 14(4.1,-2.25) 15(4.1,-1.75) 16(4.1,-1.25) 17(4.1,-0.75) 18(4.1,-0.25) 19(4.1,0.25) 20(4.1,0.75) 21(4.1,1.25) 22(4.1,1.75) 23(4.1,2.25) 24(4.1,2.75) 37(-4.1,2.75) 38(-4.1,2.25) 39(-4.1,1.75) 40(-4.1,1.25) 41(-4.1,0.75) 42(-4.1,0.25) 43(-4.1,-0.25) 44(-4.1,-0.75) 45(-4.1,-1.25) 46(-4.1,-1.75) 47(-4.1,-2.25) 48(-4.1,-2.75)
Top Overlay:
  circle w0.6: c-1.65,-1.65 r0.3
  circle w0.25: c-3.45,-4.1 r0.125
  lines w0.2: -2.65,-2.65 -2.65,2.65 2.65,2.65 2.65,-2.65 -2.65,-2.65
Top Designator:
  text ".Designator" at -7.618,-0.508 h1.52
Top Assembly:
  circle w0.1: c-2.6,-2.6 r0.5
  lines w0.1: -3.5,-3.5 3.5,-3.5 3.5,3.5 -3.5,3.5 -3.5,-3.5
Top Component Center:
  lines w0.1: -0.5,0 0.5,0 ; 0,-0.5 0,0.5
Top Component Outline:
  lines w0.05: -5.65,-5.65 5.65,-5.65 5.65,5.65 -5.65,5.65 -5.65,-5.65
3D body "LQFP-48-7x7mm.STEP": height 1.55, standoff 0, extent -4.511,-4.51 4.51,4.511